# Altium footprint library Micro SD.PcbLib: 1 footprints
Each footprint in its own frame and in the unit in brackets; x right, y up, seen from the top. Pads: shape width x height; smd on the part's side, far side on the other; paste and mask are expansions set on the pad; w line width, h text height; cw(c..) or ccw(c..) is an arc to the next point about the centre after c.
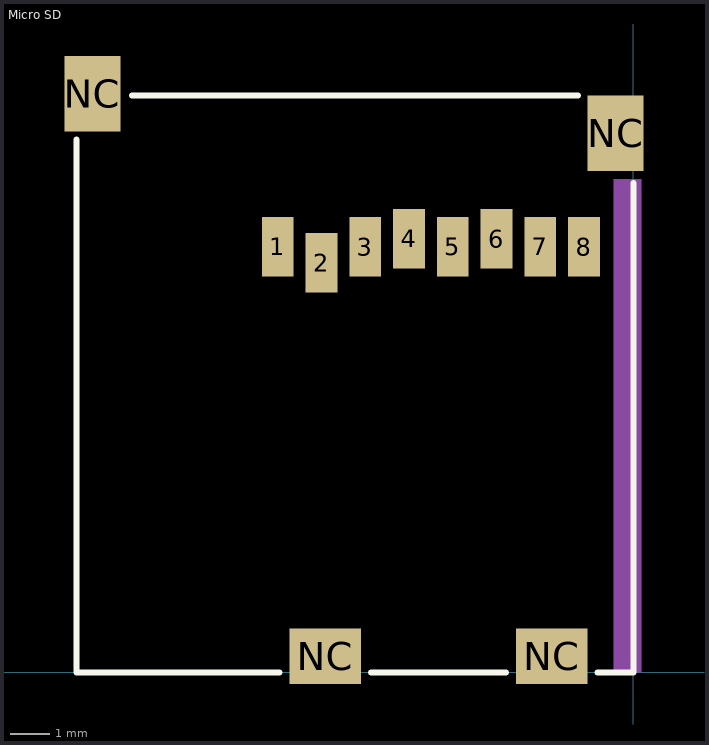
[diagram p0: the footprint, top view; thin cyan lines are the x and y axes]

## Micro SD [mm] "MicroSD Socket (Molex 500873-080X) (3M 2908-05WB-MG)"
height 1.88
pads (12):
  rect 0.8x1.5 smd: 1(-8.94,10.7) 2(-7.84,10.3) 3(-6.74,10.7) 4(-5.64,10.9) 5(-4.54,10.7) 6(-3.44,10.9) 7(-2.34,10.7) 8(-1.24,10.7)
  rect 1.4x1.9 smd: NC(-13.6,14.55) NC(-0.45,13.55)
  rect 1.8x1.4 smd: NC(-7.75,0.4) NC(-2.05,0.4)
Top Overlay:
  lines w0.152: -14,13.4 -14,0 -8.9,0 ; -12.6,14.5 -1.4,14.5 ; -6.6,0 -3.2,0 ; -0.9,0 0,0 0,12.3
Mechanical 1:
  rectangle: -0.5,0 0.2,12.4
3D body: height 1.85, standoff -0.05, extent -14,-0.1 0,15.101